# Altium schematic symbol library Lib Sch.SCHLIB: 83 symbols
Pins are listed as number, name and electrical type; pins without a type are passive.

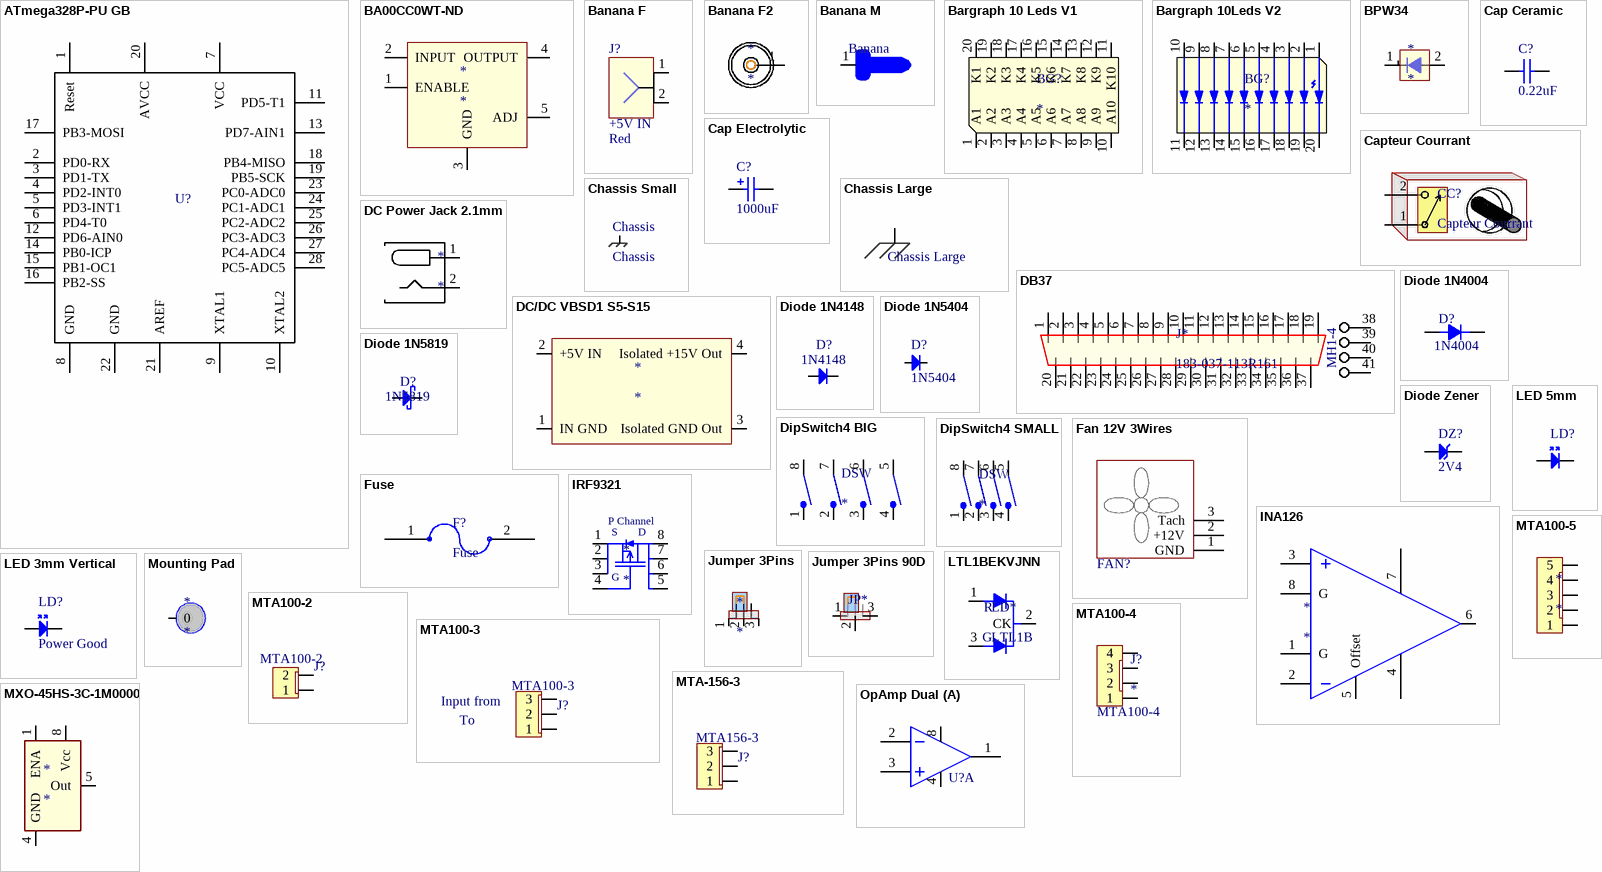
[diagram p0: symbols ATmega328P-PU GB to OpAmp Dual]

## ATmega328P-PU GB
designator U?
8-bit AVR Microcontroller, 32KB Flash, 1KB EEPROM, 2KB SRAM, 28-pin PDIP, Industrial Grade (-40°C to 85°C); Published: 1-Apr-2010; DatasheetVersion: revA, Jan-2010; PackageVersion: revB, Sep-2001; PackageReference: 28P3; Publisher: Altium Limited; PackageDescription: 28-lead (0.300"/7.62mm Wide) Plastic Dual Inline Package (PDIP); Supplier 1: Digi-Key; Supplier Part Number 1: ATMEGA328P-PU-ND; Supplier 2: Farnell; Supplier Part Number 2: 1715487; Supplier 3: Mouser; Supplier Part Number 3: 556-ATMEGA328P-PU; ComponentLink1Description: Manufacturer Link; ComponentLink1URL: http://www.atmel.com/products/avr/default.asp?; ComponentLink2Description: ATmega48A/48PA/88A/88PA/168A/168PA/328/328P Datasheet; ComponentLink2URL: http://www.atmel.com/dyn/resources/prod_documents/8271.pdf; ComponentLink3Description: ATmega48A/48PA/88A/88PA/168A/168PA/328/328P Summary; ComponentLink3URL: http://www.atmel.com/dyn/resources/prod_documents/8271S.pdf; ComponentLink4Description: Atmel.com Home; ComponentLink4URL: http://www.atmel.com
footprint DIP28
pins: 1 Reset, 2 PD0-RX, 3 PD1-TX, 4 PD2-INT0, 5 PD3-INT1, 6 PD4-T0, 7 VCC (power), 8 GND (power), 9 XTAL1, 10 XTAL2, 11 PD5-T1, 12 PD6-AIN0, 13 PD7-AIN1, 14 PB0-ICP, 15 PB1-OC1, 16 PB2-SS, 17 PB3-MOSI, 18 PB4-MISO, 19 PB5-SCK, 20 AVCC (power), 21 AREF (power), 22 GND (power), 23 PC0-ADC0, 24 PC1-ADC1, 25 PC2-ADC2, 26 PC3-ADC3, 27 PC4-ADC4, 28 PC5-ADC5

## BA00CC0WT-ND
designator *
footprint TO220FP-5 (TO220 Full Body)
pins: 1 ENABLE, 2 INPUT, 3 GND, 4 OUTPUT, 5 ADJ

## Banana F
designator J?, comment Free Text: +5V IN  Color: Red  (hidden comment: Banana Plug)
Socket; LatestRevisionDate: 17-Jul-2002; LatestRevisionNote: Re-released for DXP Platform.; Publisher: Altium Limited
signal-integrity model Connector
footprint Banana Plug Deltron (Banana Plug PCB)
pins: 1, 2

## Banana F2
designator *
pins: 1

## Banana M
designator Banana  (value not drawn)
footprint Chassis Pad .375 (Chassis Pad)
pins: 1

## Bargraph 10 Leds V1
designator BG?
Bargraph 10 Leds
footprint Bargraph 10 Leds
pins: 1 A1, 2 A2, 3 A3, 4 A4, 5 A5, 6 A6, 7 A7, 8 A8, 9 A9, 10 A10, 11 K10, 12 K9, 13 K8, 14 K7, 15 K6, 16 K5, 17 K4, 18 K3, 19 K2, 20 K1

## Bargraph 10Leds V2
designator BG?
Bargraph 10 Leds
footprint Bargraph 10 Leds
pins: 1 A1, 2 A2, 3 A3, 4 A4, 5 A5, 6 A6, 7 A7, 8 A8, 9 A9, 10 A10, 11 K10, 12 K9, 13 K8, 14 K7, 15 K6, 16 K5, 17 K4, 18 K3, 19 K2, 20 K1

## BPW34
designator *
footprint bpw34 (BPW34 Trough Hole)
pins: 1, 2

## Cap Ceramic
designator C?  value 0.22uF  (hidden comment: Cap Ceramic)
Capacitor; Published: 8-Jun-2000; LatestRevisionDate: 17-Jul-2002; LatestRevisionNote: Re-released for DXP Platform.; PackageReference: RAD-0.3; Publisher: Altium Limited; PackageDescription: Radial Cap, Thru-Hole; 2 Leads; 0.3 in Pin Spacing
footprint RAD-0.3 (Radial Cap, Thru-Hole; 2 Leads; 0.3 in Pin Spacing)
simulation model CAP (Capacitor)
signal-integrity model Cap
footprint CER RAD-0.2 (Radial Cap, Thru-Hole; 2 Leads; 0.2 in Pin Spacing)
footprint CER RAD-0.1 (Radial Cap, Thru-Hole; 2 Leads; 0.21in Pin Spacing)
footprint CER RAD-0.2 Big (Capacitor Ceramic 0.2"cc)
pins: 1, 2

## Cap Electrolytic
designator C?  value 1000uF  (hidden comment: Cap Electrolytic)
Polarized Capacitor (Radial); Published: 8-Jun-2000; LatestRevisionDate: 17-Jul-2002; LatestRevisionNote: Re-released for DXP Platform.; PackageReference: RB7.6-15; Publisher: Altium Limited; PackageDescription: Polarized Capacitor (Radial); 2 Leads
simulation model CAP (Capacitor)
signal-integrity model Cap Pol
footprint Cap Rad Round 0.21D 0.1Pad (Electrolytic Radial - 0.21D / 0.1Pad)
footprint Cap Rad Round 0.325D 0.2Pad (Electrolytic Radial - 0.325D / 0.2Pad)
footprint Cap Rad Round 0.510D 0.2Pad (Electrolytic Radial - 0.510D / 0.2Pad)
pins: 1, 2
1 alternate drawing of the same symbol

## Capteur Courrant
designator CC?
Capteur de Courrant
pins: 1, 2

## Chassis Large
designator ?
footprint Chassis Pad
pins: 1 (power) "Chassis"

## Chassis Small
designator Chassis, comment Chassis
footprint Chassis Pad
pins: 1 (power) "Chassis Connection"

## DB37
designator J*, comment 183-037-113R161
RA PCB Pins Norcomp
pins: 1, 2, 3, 4, 5, 6, 7, 8, 9, 10, 11, 12, 13, 14, 15, 16, 17, 18, 19, 20, 21, 22, 23, 24, 25, 26, 27, 28, 29, 30, 31, 32, 33, 34, 35, 36, 37, 38, 39, 40, 41
text: MH1-4

## DC Power Jack 2.1mm
designator *
footprint DC Power Jack 2.1mm (CUI  PJ-063AH)
pins: 1, 2

## DC/DC VBSD1 S5-S15
designator *
footprint DC/DC VBSD1 (DC/DC)
pins: 1 IN GND, 2 +5V IN, 3 Isolated GND Out, 4 Isolated +15V Out

## Diode 1N4004
designator D?  value 1N4004  (hidden comment: Diode 1N4004)
Diode; Published: 8-Jun-2000; LatestRevisionDate: 17-Jul-2002; LatestRevisionNote: Re-released for DXP Platform.; PackageReference: AXIAL-0.4; Publisher: Altium Limited; PackageDescription: Axial Device, Thru-Hole; 2 Leads; 0.4 in Pin Spacing
footprint DO-41 (Diode 400mil Spacin)
pins: 1, 2

## Diode 1N4148
designator D?, comment 1N4148
Through Hole; Published: 8-Jun-2000; LatestRevisionDate: 17-Jul-2002; LatestRevisionNote: Re-released for DXP Platform.; DatasheetVersion: 1997; PackageReference: DO-35; Publisher: Altium Limited; PackageDescription: Diode, Axial; Body 3.8 x 1.9 mm (LxDia. max), Lead Dia. 0.53 mm (max); Code_JEDEC: DO-204-AH; ComponentLink1Description: Manufacturer Link; ComponentLink1URL: http://www.fairchildsemi.com/; ComponentLink2Description: Datasheet; ComponentLink2URL: http://www.fairchildsemi.com/ds/1N%2F1N4148.pdf
footprint DO-35 (Diode, Axial; Body 3.8 x 1.9 mm (LxDia. max), Lead Dia. 0.53 mm (max))
simulation model 1N4148 (DIODE)
signal-integrity model 1N4148
footprint DO-35A - UL
footprint DO-35 Diode
pins: 1 K, 2 A

## Diode 1N5404
designator D?, comment 1N5404
Through Hole; Published: 8-Jun-2000; LatestRevisionDate: 17-Jul-2002; LatestRevisionNote: Re-released for DXP Platform.; DatasheetVersion: 1998; PackageVersion: Aug-1999; PackageReference: DO-201AD; Publisher: Altium Limited; PackageDescription: Diode, Axial; Body 9.5 x 5.6 mm (LxDia. max), Lead Dia. 1.32 mm (max); ComponentLink1Description: Manufacturer Link; ComponentLink1URL: http://www.fairchildsemi.com/; ComponentLink2Description: Datasheet; ComponentLink2URL: http://www.fairchildsemi.com/ds/1N%2F1N5400.pdf
footprint DO-201AD (Diode, Axial; Body 9.5 x 5.6 mm (LxDia. max), Lead Dia. 1.32 mm (max))
simulation model 1N5404 (DIODE)
signal-integrity model 1N5404
pins: 1 A, 2 K

## Diode 1N5819
designator D?, comment 1N5819
Through Hole; Published: 8-Jun-2000; LatestRevisionDate: 17-Jul-2002; LatestRevisionNote: Re-released for DXP Platform.; DatasheetVersion: 1997; PackageReference: DO-35; Publisher: Altium Limited; PackageDescription: Diode, Axial; Body 3.8 x 1.9 mm (LxDia. max), Lead Dia. 0.53 mm (max); Code_JEDEC: DO-204-AH; ComponentLink1Description: Manufacturer Link; ComponentLink1URL: http://www.fairchildsemi.com/; ComponentLink2Description: Datasheet; ComponentLink2URL: http://www.fairchildsemi.com/ds/1N%2F1N4148.pdf
footprint DO-35 (Diode, Axial; Body 3.8 x 1.9 mm (LxDia. max), Lead Dia. 0.53 mm (max))
simulation model 1N4148 (DIODE)
signal-integrity model 1N4148
footprint DO-35A - UL (Diode, Axial; Body 4.6 x 1.9 mm (LxDia. max), Lead Dia. 0.53 mm (max))
pins: 1 A, 2 K

## Diode Zener
designator DZ?  value 2V4  (hidden comment: Diode Zener)
Through Hole; Published: 8-Jun-2000; LatestRevisionDate: 17-Jul-2002; LatestRevisionNote: Re-released for DXP Platform.; PackageReference: DIODE-0.7; Publisher: Altium Limited; PackageDescription: Diode, Thru-Hole; 2 Leads; 0.7 in Pin Spacing
simulation model ZENER (Diode)
signal-integrity model D Zener
footprint DO-35A - UL (Diode, Axial; Body 4.6 x 1.9 mm (LxDia. max), Lead Dia. 0.53 mm (max))
pins: 1 A, 2 K

## DipSwitch4 BIG
designator DSW
footprint DIP8
pins: 1, 2, 3, 4, 5, 6, 7, 8

## DipSwitch4 SMALL
designator DSW
footprint DIP8
pins: 1, 2, 3, 4, 5, 6, 7, 8

## Fan 12V 3Wires
designator FAN?  (value not drawn)
Published: 24-Mar-1999; LatestRevisionDate: 17-Jul-2002; LatestRevisionNote: Re-released for DXP Platform.; PackageReference: RAD-0.4; Publisher: Altium Limited; PackageDescription: Radial Cap, Thru-Hole; 2 Leads; 0.4 in Pin Spacing
footprint FAN 12V 3 Wires + HS
pins: 1 GND, 2 +12V, 3 Tach

## Fuse
designator F?
footprint Fuse Holder 3mm
pins: 1, 2

## INA126
designator *
footprint DIP8
pins: 1 G, 2 IN-, 3 IN+, 4 -Vcc, 5 Offset, 6 Out, 7 +Vcc, 8 G

## IRF9321
designator *
footprint SO8 (SMT SO8)
pins: 1, 2, 3, 4, 5, 6, 7, 8
text: P Channel; S; D; G

## Jumper 3Pins
designator *
footprint Jumper 3Pins
pins: 1, 2, 3

## Jumper 3Pins 90D
designator JP*  (value not drawn)
footprint Jumper 3Pins
pins: 1, 2, 3

## LED 3mm Vertical
designator LD?, comment Power Good
Through Hole; Comment_1: LED 3mm Vertical; Published: 8-Jun-2000; LatestRevisionDate: 08-Jul-2005; LatestRevisionNote: Mech Layer 1 removed.; PackageReference: LED-1; Publisher: Altium Limited; PackageDescription: LED; 2 Leads
simulation model LED1 (Diode)
footprint LED 3mm Vertical (LED 2 Leads 3mm Vertical)
pins: 1 A, 2 K

## LED 5mm
designator LD?
Through Hole; Comment_1: LED 5mm; Published: 8-Jun-2000; LatestRevisionDate: 08-Jul-2005; LatestRevisionNote: Mech Layer 1 removed.; PackageReference: LED-1; Publisher: Altium Limited; PackageDescription: LED; 2 Leads
simulation model LED1 (Diode)
footprint LED 5mm V
footprint LED 5mm V-IR
footprint Led 5mm H-TB Pads-K On Top
footprint Led 5mm H-TB Pads-A On Top
footprint Led 5mm H-TH Pads
footprint Led 5mm H-TH Pads Reverse
pins: 1 A, 2 K

## LTL1BEKVJNN
designator LD*, comment LTL1B
footprint LED 3mm Vertical R/G
pins: 1 R, 2 CK, 3 G

## Mounting Pad
designator *
footprint Mounting Hole
pins: 0

## MTA100-2
designator J?, comment Connector Type: MTA100-2  (hidden comment: Input)
MTA Male 0 Degres
signal-integrity model Connector
footprint MTA100-2 (MTA100-3 M)
pins: 1, 2

## MTA100-3
designator J?, comment Comments 1: Input from  Comments 2: To  Connector Type: MTA100-3  (hidden comment: Input)
MTA Male 0 Degres
signal-integrity model Connector
footprint MTA100-3 MF
footprint MTA100-3 M
pins: 1, 2, 3

## MTA100-4
designator J?  Connector Type: MTA100-4
MTA100-4M
footprint MTA100-4 MF
pins: 1, 2, 3, 4

## MTA100-5
designator *
footprint MTA100-5 M
pins: 1, 2, 3, 4, 5

## MTA-156-3
designator J?, comment Connector Type: MTA156-3  (hidden comment: Input)
MTA156-3M
signal-integrity model Connector
footprint MTA156-3
pins: 1, 2, 3

## MXO-45HS-3C-1M0000
designator *
footprint DIP8-OSC
pins: 1 ENA, 4 GND, 5 Out, 8 Vcc

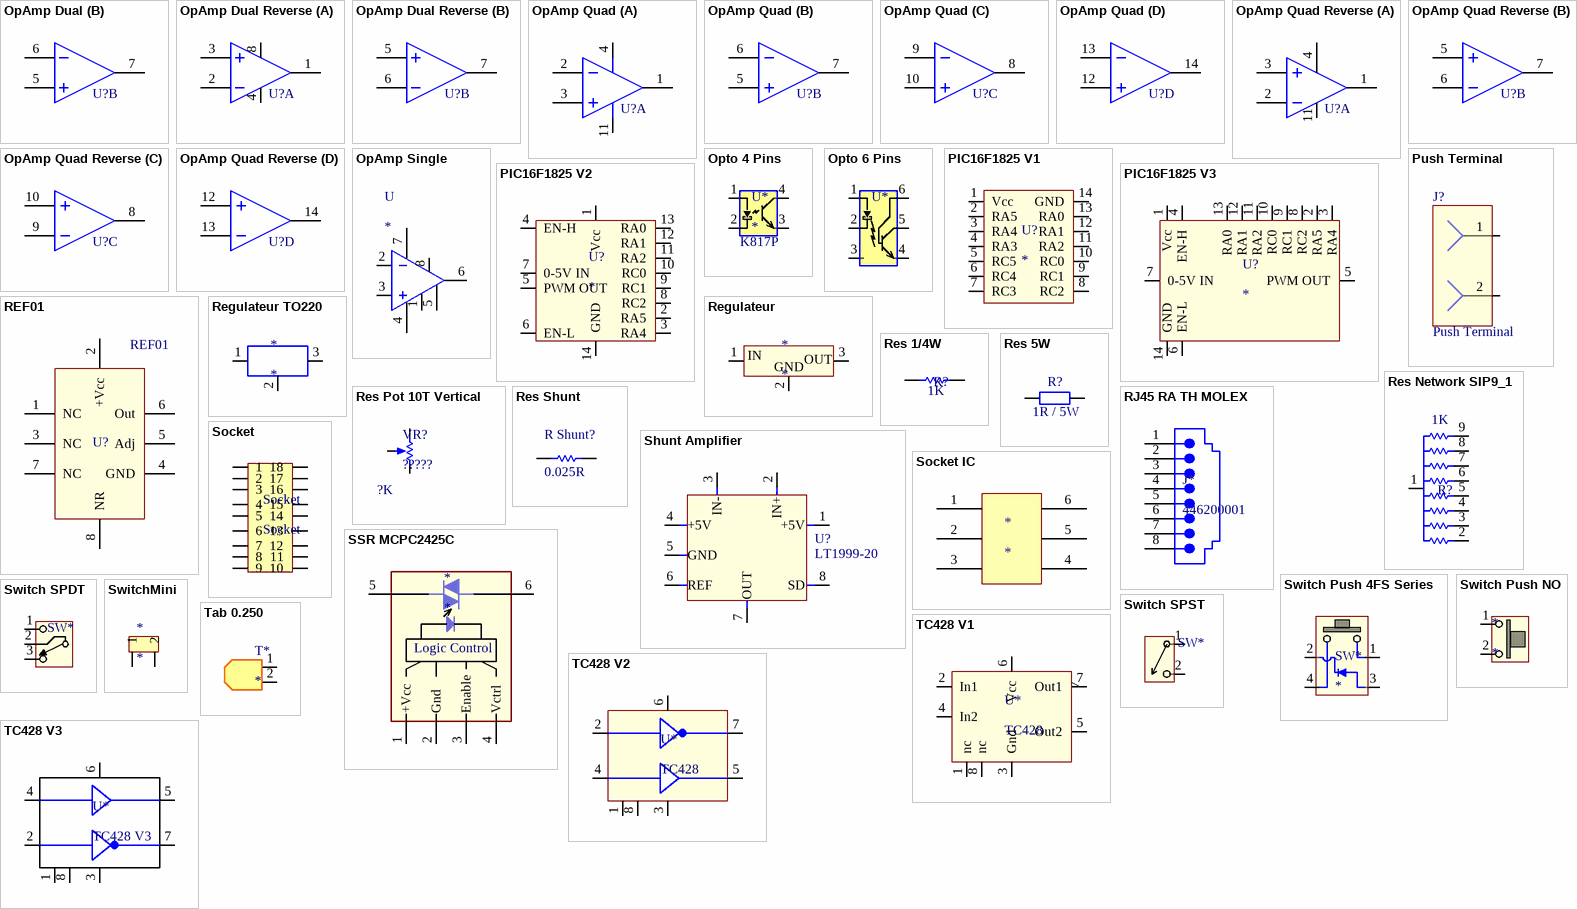
[diagram p1: symbols OpAmp Dual to TC428 V3]

## OpAmp Dual
designator U?
Dual OpAmp DIP8; Published: 15-Apr-2002; LatestRevisionDate: 13-Apr-2006; LatestRevisionNote: IPC-7351 Footprint Added.; DatasheetVersion: Mar-1989; PackageVersion: Jan-1998; PackageReference: D008; Publisher: Altium Limited; PackageDescription: 8-Pin Small Outline Integrated Circuit 1.27 mm Pitch; Code_IPC: SOIC127P600-8; ComponentLink1Description: Manufacturer Link; ComponentLink1URL: http://www.ti.com/; ComponentLink2Description: Datasheet; ComponentLink2URL: http://www-s.ti.com/sc/ds/tlc272.pdf
footprint D008_L (SOIC, 8-Leads, Body 4.9x3.9mm, Pitch 1.27mm, IPC High Density)
footprint D008_M (SOIC, 8-Leads, Body 4.9x3.9mm, Pitch 1.27mm, IPC Low Density)
footprint D008_M (SOIC, 8-Leads, Body 4.9x3.9mm, Pitch 1.27mm, IPC Low Density)
3D model D008 (8-Pin Small Outline Integrated Circuit 1.27 mm Pitch)
footprint P008 (DIP; 8 Leads; Row Spacing 7.62 mm; Pitch 2.54 mm)
footprint P008 (DIP; 8 Leads; Row Spacing 7.62 mm; Pitch 2.54 mm)
part A pins: 1 OUT, 2 IN-, 3 IN+, 4 -Vcc, 8 +Vcc
part B pins: 5 IN+, 6 IN-, 7 OUT

## OpAmp Dual Reverse
designator U?
Dual OpAmp DIP8; Published: 15-Apr-2002; LatestRevisionDate: 13-Apr-2006; LatestRevisionNote: IPC-7351 Footprint Added.; DatasheetVersion: Mar-1989; PackageVersion: Jan-1998; PackageReference: D008; Publisher: Altium Limited; PackageDescription: 8-Pin Small Outline Integrated Circuit 1.27 mm Pitch; Code_IPC: SOIC127P600-8; ComponentLink1Description: Manufacturer Link; ComponentLink1URL: http://www.ti.com/; ComponentLink2Description: Datasheet; ComponentLink2URL: http://www-s.ti.com/sc/ds/tlc272.pdf
footprint D008_L (SOIC, 8-Leads, Body 4.9x3.9mm, Pitch 1.27mm, IPC High Density)
footprint D008_M (SOIC, 8-Leads, Body 4.9x3.9mm, Pitch 1.27mm, IPC Low Density)
footprint D008_M (SOIC, 8-Leads, Body 4.9x3.9mm, Pitch 1.27mm, IPC Low Density)
3D model D008 (8-Pin Small Outline Integrated Circuit 1.27 mm Pitch)
footprint P008 (DIP; 8 Leads; Row Spacing 7.62 mm; Pitch 2.54 mm)
footprint P008 (DIP; 8 Leads; Row Spacing 7.62 mm; Pitch 2.54 mm)
part A pins: 1 OUT, 2 IN-, 3 IN+, 4 -Vcc, 8 +Vcc
part B pins: 5 IN+, 6 IN-, 7 OUT

## OpAmp Quad
designator U?
Quad OpAmp DIP14; Published: 15-Apr-2002; LatestRevisionDate: 04-Mar-2005; LatestRevisionNote: Stylized 3D Model Added.; DatasheetVersion: Aug-1988; PackageVersion: Oct-1995; PackageReference: N014; Publisher: Altium Limited; PackageDescription: DIP; 14 Leads; Row Spacing 7.62 mm; Pitch 2.54 mm; ComponentLink1Description: Manufacturer Link; ComponentLink1URL: http://www.ti.com/; ComponentLink2Description: Datasheet; ComponentLink2URL: http://www-s.ti.com/sc/ds/tlc274a.pdf
footprint N014 (DIP; 14 Leads; Row Spacing 7.62 mm; Pitch 2.54 mm)
3D model N014 (DIP; 14 Leads; Row Spacing 7.62 mm; Pitch 2.54 mm)
part A pins: 1 OUT, 2 IN-, 3 IN+, 4 +Vcc, 11 -Vcc
part B pins: 5 IN+, 6 IN-, 7 OUT
part C pins: 8 OUT, 9 IN-, 10 IN+
part D pins: 12 IN+, 13 IN-, 14 OUT

## OpAmp Quad Reverse
designator U?
Quad OpAmp DIP14; Published: 15-Apr-2002; LatestRevisionDate: 04-Mar-2005; LatestRevisionNote: Stylized 3D Model Added.; DatasheetVersion: Aug-1988; PackageVersion: Oct-1995; PackageReference: N014; Publisher: Altium Limited; PackageDescription: DIP; 14 Leads; Row Spacing 7.62 mm; Pitch 2.54 mm; ComponentLink1Description: Manufacturer Link; ComponentLink1URL: http://www.ti.com/; ComponentLink2Description: Datasheet; ComponentLink2URL: http://www-s.ti.com/sc/ds/tlc274a.pdf
footprint N014 (DIP; 14 Leads; Row Spacing 7.62 mm; Pitch 2.54 mm)
3D model N014 (DIP; 14 Leads; Row Spacing 7.62 mm; Pitch 2.54 mm)
part A pins: 1 OUT, 2 IN-, 3 IN+, 4 +Vcc, 11 -Vcc
part B pins: 5 IN+, 6 IN-, 7 OUT
part C pins: 8 OUT, 9 IN-, 10 IN+
part D pins: 12 IN+, 13 IN-, 14 OUT

## OpAmp Single
designator U
OpAmp Single
footprint p008
pins: 1 B "Balance", 2 - "-In", 3 + "+In", 4 -Vcc, 5 B "Balance", 6 Out "Output", 7 +Vcc, 8 NC

## Opto 4 Pins
designator U*  Part Number: K817P
Manufacturer: Vishay
footprint DIP4
pins: 1, 2, 3, 4

## Opto 6 Pins
designator U*  (value not drawn)
Opto 6Pins
footprint DIP6
pins: 1, 2, 3, 4, 5, 6

## PIC16F1825 V1
designator U?
PIC16F1825
footprint N014
pins: 1 Vcc, 2 RA5, 3 RA4, 4 RA3, 5 RC5, 6 RC4, 7 RC3, 8 RC2, 9 RC1, 10 RC0, 11 RA2, 12 RA1, 13 RA0, 14 GND

## PIC16F1825 V2
designator U?
PIC16F1825
footprint N014
pins: 1 Vcc, 2 RA5, 3 RA4, 4 EN-H, 5 PWM OUT, 6 EN-L, 7 0-5V IN, 8 RC2, 9 RC1, 10 RC0, 11 RA2, 12 RA1, 13 RA0, 14 GND

## PIC16F1825 V3
designator U?
PIC16F1825
footprint N014
pins: 1 Vcc, 2 RA5, 3 RA4, 4 EN-H, 5 PWM OUT, 6 EN-L, 7 0-5V IN, 8 RC2, 9 RC1, 10 RC0, 11 RA2, 12 RA1, 13 RA0, 14 GND

## Push Terminal
designator J?
2 Positions Side Entry; Text: Branchement Moteur; LatestRevisionDate: 17-Jul-2002; LatestRevisionNote: Re-released for DXP Platform.; Publisher: Altium Limited
signal-integrity model Connector
footprint Push Terminal TE Connectivity (Push Terminal 2 Positions)
pins: 1, 2 1

## REF01
designator U?, comment Part Number: REF01  (hidden comment: V Ref)
footprint DIP8 (DIP8 Leads - Row Spacing 300mil - Pitch 100mil)
pins: 1 NC, 2 +Vcc, 3 NC, 4 GND, 5 Adj, 6 Out, 7 NC, 8 NR

## Regulateur
designator *
Regulateur
footprint OKI-78SR5
pins: 1 IN, 2 GND "Regulateur", 3 OUT

## Regulateur TO220
designator *
footprint TO-220 H+HeatPad (T0-220 H+HeatPad)
pins: 1, 2, 3

## Res 1/4W
designator R?  value 1K  (hidden comment: Res 1/4W)
Resistor; Published: 8-Jun-2000; LatestRevisionDate: 17-Jul-2002; LatestRevisionNote: Re-released for DXP Platform.; PackageReference: AXIAL-0.3; Publisher: Altium Limited; PackageDescription: Axial Device, Thru-Hole; 2 Leads; 0.3 in Pin Spacing
simulation model RESISTOR (Resistor)
signal-integrity model Res
footprint AXIAL-0.4 (Resistance 1/4W)
footprint Axial 0.4" Step (Axial 3D Step)
pins: 1, 2

## Res 5W
designator R?  value 1R / 5W  (hidden comment: Res 5W)
Resistor; Published: 8-Jun-2000; LatestRevisionDate: 17-Jul-2002; LatestRevisionNote: Re-released for DXP Platform.; PackageReference: AXIAL-0.4; Publisher: Altium Limited; PackageDescription: Axial Device, Thru-Hole; 2 Leads; 0.4 in Pin Spacing
footprint AXIAL-0.4 (Axial Device, Thru-Hole; 2 Leads; 0.4 in Pin Spacing)
simulation model RESISTOR (Resistor)
signal-integrity model Res
footprint AXIAL-0.4-UL (Pad 70mil Hole 40 mil Pour Machine PCB)
footprint AXIAL-1.0 Power 5W
pins: 1, 2

## Res Network SIP9_1
designator R?, comment value 1K  (hidden comment: Res Network SIP9)
Resistor; Published: 8-Jun-2000; LatestRevisionDate: 17-Jul-2002; LatestRevisionNote: Re-released for DXP Platform.; PackageReference: AXIAL-0.3; Publisher: Altium Limited; PackageDescription: Axial Device, Thru-Hole; 2 Leads; 0.3 in Pin Spacing
simulation model RESISTOR (Resistor)
signal-integrity model Res
footprint SIP9
pins: 1, 2, 3, 4, 5, 6, 7, 8, 9

## Res Pot 10T Vertical
designator VR?, comment ?????  value ?K
footprint VR1 (Trim 10T Vertical)
pins: 1 Top, 2 Tap, 3 Bot

## Res Shunt
designator R Shunt?  value 0.025R  (hidden comment: Res Shunt)
Resistor; Published: 8-Jun-2000; LatestRevisionDate: 17-Jul-2002; LatestRevisionNote: Re-released for DXP Platform.; PackageReference: AXIAL-0.3; Publisher: Altium Limited; PackageDescription: Axial Device, Thru-Hole; 2 Leads; 0.3 in Pin Spacing
simulation model RESISTOR (Resistor)
signal-integrity model Res
footprint AXIAL-0.4-UL (Pad 70mil Hole 40 mil Pour Machine PCB)
footprint AXIAL-0.7 (Axial Device, Thru-Hole; 2 Leads; 0.7 in Pin Spacing)
footprint AXIAL-0.7 (Axial Device, Thru-Hole; 2 Leads; 0.7 in Pin Spacing)
pins: 1, 2

## RJ45 RA TH MOLEX
designator J*, comment 446200001
footprint RJ45 MOLEX 446200001 (RJ45 RA TH)
pins: 1, 2, 3, 4, 5, 6, 7, 8

## Shunt Amplifier
designator U?  Part Number: LT1999-20  (hidden comment: Shunt Amplifier)
SOIC8; Published: 8-Jun-2000; LatestRevisionDate: 17-Jul-2002; LatestRevisionNote: Re-released for DXP Platform.; DatasheetVersion: REV. B; PackageVersion: 1990; PackageReference: H-08A; Publisher: Altium Limited; PackageDescription: Can; 8 Leads; Pin Circle Dia. 5.08 mm; Lead Dia. 0.53 mm (max); ComponentLink1Description: Manufacturer Link; ComponentLink1URL: http://www.analog.com/
footprint SOIC8 (SOIC, 8-Leads, Body 0.150"W x 0.190"L Pitch 0.050")
pins: 1 +5V, 2 IN+, 3 IN-, 4 +5V (power), 5 GND, 6 REF, 7 OUT, 8 SD

## Socket
designator Socket
footprint DIP18
pins: 1, 2, 3, 4, 5, 6, 7, 8, 9, 10, 11, 12, 13, 14, 15, 16, 17, 18

## Socket IC
designator *
footprint dip16 (DIP16)
pins: 1, 2, 3, 4, 5, 6

## SSR MCPC2425C
designator *
pins: 1 +Vcc, 2 Gnd, 3 Enable, 4 Vctrl, 5 M1, 6 M2
text: Logic Control

## Switch Push 4FS Series
designator SW*
footprint Switch Push 4FS (Unimec Switch Push 4FS)
pins: 1, 2, 3, 4

## Switch Push NO
designator *
pins: 1, 2

## Switch SPDT
designator SW*
pins: 1, 2, 3

## Switch SPST
designator SW*
pins: 1, 2

## SwitchMini
designator *
pins: 1, 2

## Tab 0.250
designator T*
KeyStone 4966
footprint Tab 250 RA (Tab 250 RA KeyStone 4966)
footprint Tab 250 0D (Tab 250 0D Keystone 1287-ST)
pins: 1, 2

## TC428 V1
designator U*, comment TC428
footprint DIP8
pins: 1 nc, 2 In1, 3 Gnd, 4 In2, 5 Out2, 6 Vcc, 7 Out1, 8 nc

## TC428 V2
designator U*, comment TC428
footprint DIP8
pins: 1 nc, 2 In1, 3 Gnd, 4 In2, 5 Out2, 6 Vcc, 7 Out1, 8 nc

## TC428 V3
designator U*
footprint DIP8
pins: 1 nc, 2 In1, 3 Gnd, 4 In2, 5 Out2, 6 Vcc, 7 Out1, 8 nc

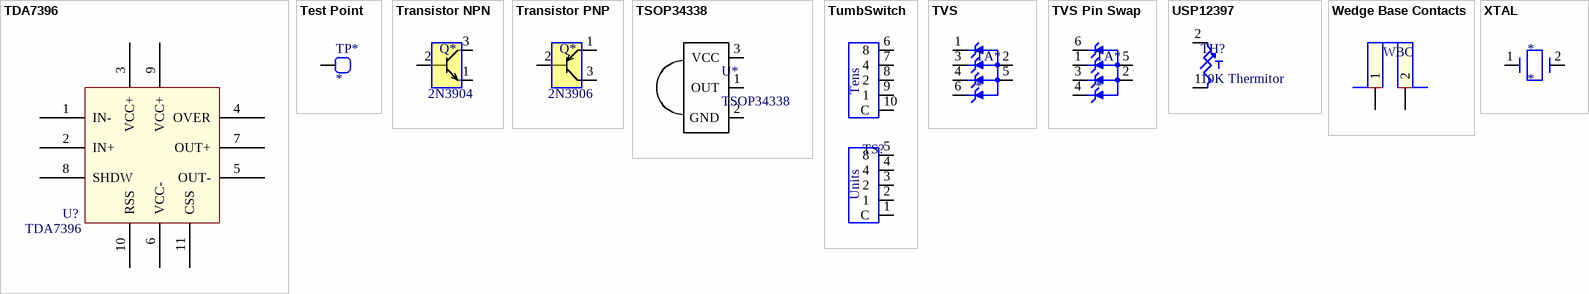
[diagram p2: symbols TDA7396 to XTAL]

## TDA7396
designator U?
65W Amplifier
footprint MultiWatt11
pins: 1 IN-, 2 IN+, 3 VCC+, 4 OVER, 5 OUT-, 6 VCC-, 7 OUT+, 8 SHDW, 9 VCC+, 10 RSS, 11 CSS

## Test Point
designator TP*
Test Point
footprint SQ Pad (Pad)
pins: 1 "Test Point"

## Transistor NPN
designator Q*  Part Number: 2N3904  (hidden comment: *)
Manufacturer: Vishay
footprint TO-92 V
pins: 1, 2, 3

## Transistor PNP
designator Q*  Part Number: 2N3906  (hidden comment: *)
Manufacturer: Vishay
footprint TO-92 V
pins: 1, 2, 3

## TSOP34338
designator U*
footprint TSOP (IR Sensor)
pins: 1 OUT, 2 GND, 3 VCC

## TumbSwitch
designator TS?  (value not drawn)
Resistor; Published: 8-Jun-2000; LatestRevisionDate: 17-Jul-2002; LatestRevisionNote: Re-released for DXP Platform.; PackageReference: AXIAL-0.3; Publisher: Altium Limited; PackageDescription: Axial Device, Thru-Hole; 2 Leads; 0.3 in Pin Spacing
simulation model RESISTOR (Resistor)
signal-integrity model Res
footprint TumbSwitch
pins: 1 C, 2 1, 3 2, 4, 5 8, 6 8, 7 4, 8 2, 9 1, 10 C
text: Tens; Units

## TVS
designator TA*
footprint SOT23-6L
pins: 1, 2, 3, 4, 5, 6

## TVS Pin Swap
designator TA*
footprint SOT23-6L
pins: 1, 2, 3, 4, 5, 6

## USP12397
designator TH?, comment 10K Thermitor
footprint USP12397 (Thermistor Flex PCB)
pins: 1, 2

## Wedge Base Contacts
designator WBC  (value not drawn)
Wedge Base Contacts
footprint Wedge Lamp Pads (Wedge Lamp Socket)
pins: 1, 2

## XTAL
designator *
footprint HC49 (XTAL LOW PROFILE)
pins: 1, 2